# Altium schematic symbol library pinger-schlib.SchLib: 14 symbols
Pins are listed as number, name and electrical type; pins without a type are passive.

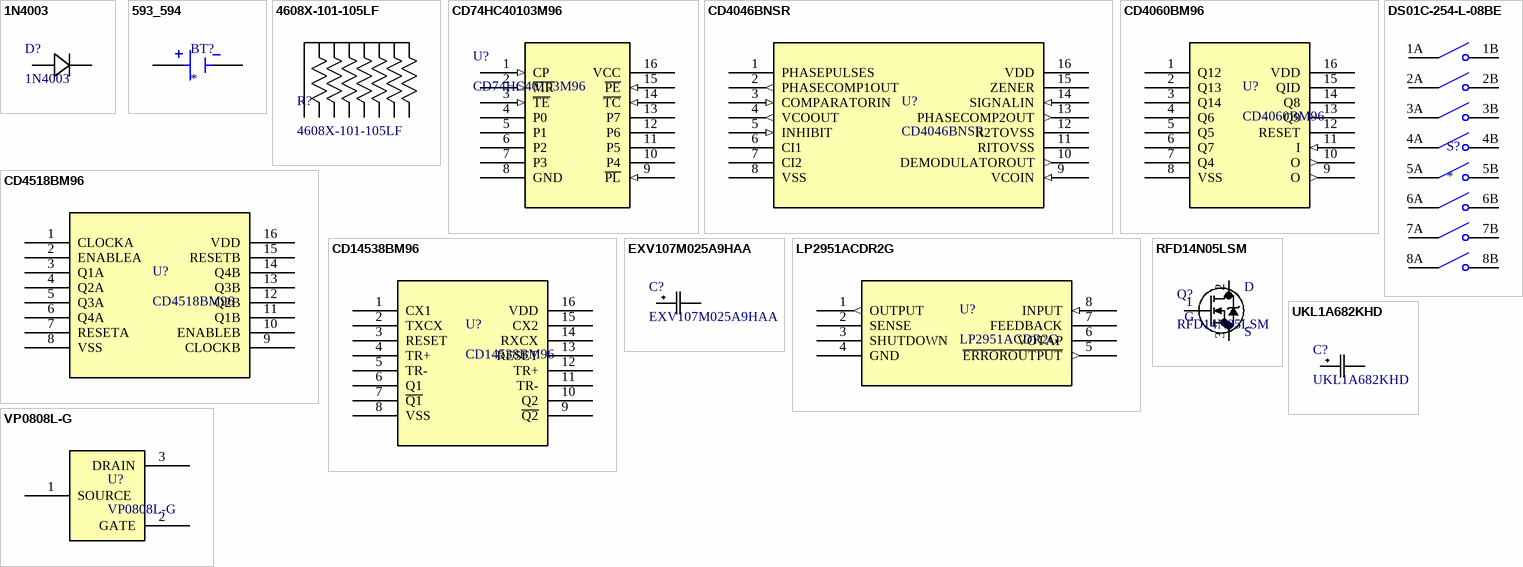
[diagram p0: symbols 1N4003 to VP0808L-G]

## 1N4003
designator D?
Diode 200 V 1A Through Hole DO-41; Manufacturer_Name: onsemi; Copyright: Copyright (C) 2025 Ultra Librarian. All rights reserved.; Manufacturer_Part_Number: 1N4003
footprint CR_1N4005_ONS
pins: 1, 2

## 593_594
designator BT?
Battery Contact Snap (Negative) 9V Cell PC Pin; MF: Keystone Electronics; MP: 593; Package: None; Price: None; Value: *; Availability: Unavailable
footprint BAT_593
pins: 1 NEG, 2 NEG

## 4608X-101-105LF
designator R?
1M Ohm ±2% 200mW Power Per Element Bussed 7 Resistor Network/Array ±100ppm/°C 8-SIP; Manufacturer_Name: Bourns Electronics; Copyright: Copyright (C) 2026 Ultra Librarian. All rights reserved.; Manufacturer_Part_Number: 4608X-101-105LF
footprint BO_4608X
pins: 1, 2, 3, 4, 5, 6, 7, 8

## CD74HC40103M96
designator U?
High Speed CMOS Logic 8-Stage Synchronous Down Counters 16-SOIC -55 to 125; Manufacturer_Name: Texas Instruments; Copyright: Copyright (C) 2025 Ultra Librarian. All rights reserved.; Manufacturer_Part_Number: CD74HC40103M96; RefDes: RefDes; Type: Type
footprint SOIC16-3.9MM
pins: 1 CP (in), 2 ~{MR} (in), 3 ~{TE} (in), 4 P0, 5 P1, 6 P2, 7 P3, 8 GND (power), 9 ~{PL} (in), 10 P4, 11 P5, 12 P6, 13 P7, 14 ~{TC} (in), 15 ~{PE} (in), 16 VCC (power)

## CD4046BNSR
designator U?
CMOS Micropower Phase-Locked Loop 16-SOP -55 to 125; Manufacturer_Name: Texas Instruments; Copyright: Copyright (C) 2025 Ultra Librarian. All rights reserved.; Manufacturer_Part_Number: CD4046BNSR; RefDes: RefDes; Type: Type
footprint SOIC16-5.3MM
pins: 1 PHASEPULSES, 2 PHASECOMP1OUT (out), 3 COMPARATORIN (in), 4 VCOOUT (out), 5 INHIBIT (in), 6 CI1, 7 CI2, 8 VSS (power), 9 VCOIN (in), 10 DEMODULATOROUT (out), 11 RITOVSS (power), 12 R2TOVSS (power), 13 PHASECOMP2OUT (out), 14 SIGNALIN (in), 15 ZENER, 16 VDD (power)

## CD4060BM96
designator U?
CMOS 14-Stage Ripple-Carry Binary Counter/Divider and Oscillator 16-SOIC -55 to 125; Manufacturer_Name: Texas Instruments; Copyright: Copyright (C) 2025 Ultra Librarian. All rights reserved.; Manufacturer_Part_Number: CD4060BM96; RefDes: RefDes; Type: Type
footprint SOIC16-3.9MM
pins: 1 Q12, 2 Q13, 3 Q14, 4 Q6, 5 Q5, 6 Q7, 7 Q4, 8 VSS (power), 9 O (out), 10 O (out), 11 I (in), 12 RESET, 13 Q9, 14 Q8, 15 QID, 16 VDD (power)

## CD4518BM96
designator U?
CMOS Dual BCD Up-Counter 16-SOIC -55 to 125; Manufacturer_Name: Texas Instruments; Copyright: Copyright (C) 2026 Ultra Librarian. All rights reserved.; Manufacturer_Part_Number: CD4518BM96; RefDes: RefDes; Type: Type
footprint SOIC16-3.9MM
pins: 1 CLOCKA, 2 ENABLEA, 3 Q1A, 4 Q2A, 5 Q3A, 6 Q4A, 7 RESETA, 8 VSS (power), 9 CLOCKB, 10 ENABLEB, 11 Q1B, 12 Q2B, 13 Q3B, 14 Q4B, 15 RESETB, 16 VDD (power)

## CD14538BM96
designator U?
CMOS Dual Precision Monostable Multivibrator (125 C Operation) 16-SOIC -55 to 125; Manufacturer_Name: Texas Instruments; Copyright: Copyright (C) 2025 Ultra Librarian. All rights reserved.; Manufacturer_Part_Number: CD14538BM96; RefDes: RefDes; Type: Type
footprint SOIC16-3.9MM
pins: 1 CX1, 2 TXCX, 3 RESET, 4 TR+, 5 TR-, 6 Q1, 7 ~{Q1}, 8 VSS (power), 9 ~{Q2}, 10 Q2, 11 TR-, 12 TR+, 13 RESET, 14 RXCX, 15 CX2, 16 VDD (power)

## DS01C-254-L-08BE
designator S?
8 Position, Through Hole, 2.54 mm Pitch, Raised Slide Actuator, Convex Bottom, Long Pin, DIP Switch; MF: Same Sky; MP: DS01C-254-L-08BE; SnapEDA_Link: https://www.snapeda.com/parts/DS01C-254-L-08BE/Same+Sky/view-part/?ref=snap; Package: None; Value: *; Check_prices: https://www.snapeda.com/parts/DS01C-254-L-08BE/Same+Sky/view-part/?ref=eda
footprint SW_DS01C-254-L-08BE
pins: 1A COM1, 1B NO1, 2A COM2, 2B NO2, 3A COM3, 3B NO3, 4A COM4, 4B NO4, 5A COM5, 5B NO5, 6A COM6, 6B NO6, 7A COM7, 7B NO7, 8A COM8, 8B NO8

## EXV107M025A9HAA
designator C?
100 µF 25 V Aluminum Electrolytic Capacitors Radial, Can - SMD 340mOhm @ 100kHz 3000 Hrs @ 105°C; Manufacturer_Name: Kemet; Copyright: Copyright (C) 2026 Ultra Librarian. All rights reserved.; Manufacturer_Part_Number: EXV107M025A9HAA
footprint CAP_SMT_RADIAL_W6.6MM_D6.3MM
pins: 1, 2

## LP2951ACDR2G
designator U?
Linear Voltage Regulator IC Positive Adjustable (Fixed) 1 Output 100mA 8-SOIC; Manufacturer_Name: onsemi; Copyright: Copyright (C) 2026 Ultra Librarian. All rights reserved.; Manufacturer_Part_Number: LP2951ACDR2G; RefDes: RefDes; Type: Type
footprint SOIC8-3.9MM
pins: 1 OUTPUT (out), 2 SENSE, 3 SHUTDOWN, 4 GND (power), 5 ~{ERROROUTPUT} (out), 6 VOTAP, 7 FEEDBACK, 8 INPUT (in)

## RFD14N05LSM
designator Q?
N-Channel 50 V 14A (Tc) 48W (Tc) Surface Mount TO-252AA; Manufacturer_Name: onsemi; Copyright: Copyright (C) 2025 Ultra Librarian. All rights reserved.; Manufacturer_Part_Number: RFD14N05LSM
footprint TO-252AA
pins: 1 G, 2 D, 3 S

## UKL1A682KHD
designator C?
6800 µF 10 V Aluminum Electrolytic Capacitors Radial, Can 2000 Hrs @ 85°C; Manufacturer_Name: Nichicon; Copyright: Copyright (C) 2026 Ultra Librarian. All rights reserved.; Manufacturer_Part_Number: UKL1A682KHD; Digi-Key_Part_Number_1: UKL1A682KHD-ND
footprint CAP_TH_RADIAL_W18MM_D7.5MM
pins: 1, 2

## VP0808L-G
designator U?
P-Channel 80 V 280mA (Tj) 1W (Tc) Through Hole TO-92-3; Manufacturer_Name: Microchip; Copyright: Copyright (C) 2026 Ultra Librarian. All rights reserved.; Manufacturer_Part_Number: VP0808L-G; RefDes: RefDes; Type: Type
footprint TO-92
pins: 1 SOURCE, 2 GATE, 3 DRAIN